# EAGLE library part 2X10 (library pimoroni-connectors)
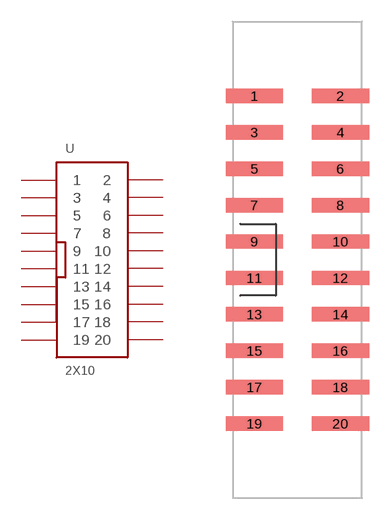
[diagram p32: symbol with the pads of 2X10_SMT_SHROUDED; footprint 2X10_SMT_SHROUDED]

Designator prefix -

## 2X10  [2X10_SMT_SHROUDED]
1  1
2  2
3  3
4  4
5  5
6  6
7  7
8  8
9  9
10  10
11  11
12  12
13  13
14  14
15  15
16  16
17  17
18  18
19  19
20  20

## Footprint 2X10_SMT_SHROUDED (pad centres in mm)
smd 4 x 1: 1 -3,11.43; 2 3,11.43; 3 -3,8.89; 4 3,8.89; 5 -3,6.35; 6 3,6.35; 7 -3,3.81; 8 3,3.81; 9 -3,1.27; 10 3,1.27; 11 -3,-1.27; 12 3,-1.27; 13 -3,-3.81; 14 3,-3.81; 15 -3,-6.35; 16 3,-6.35; 17 -3,-8.89; 18 3,-8.89; 19 -3,-11.43; 20 3,-11.43